# Altium footprint library SOIC.PcbLib: 1 footprints
Each footprint in its own frame and in the unit in brackets; x right, y up, seen from the top. Pads: shape width x height; smd on the part's side, far side on the other; paste and mask are expansions set on the pad; w line width, h text height; cw(c..) or ccw(c..) is an arc to the next point about the centre after c.
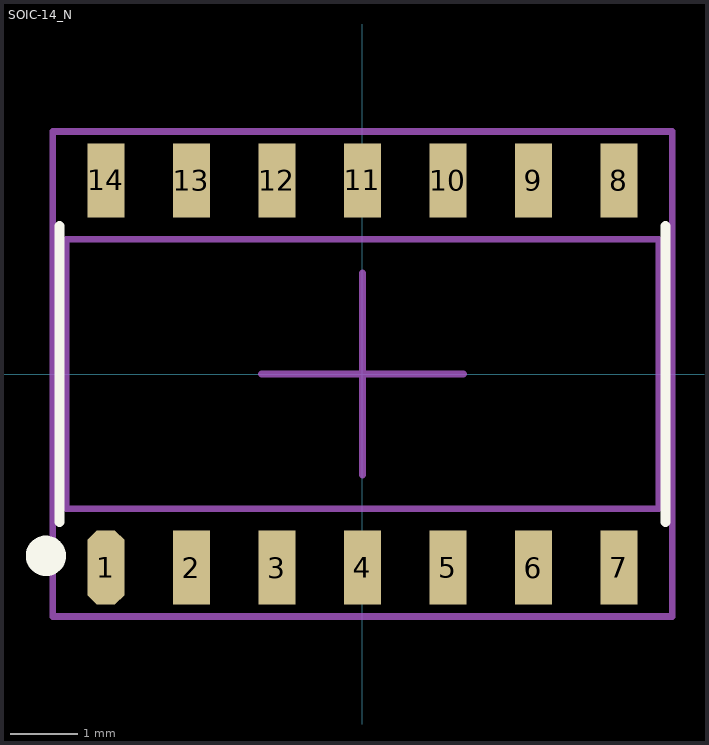
[diagram p0: the footprint, top view; thin cyan lines are the x and y axes]

## SOIC-14_N [mm] "SOIC, 14-Leads, Body 4x8.75mm, Pitch 1.27mm, Lead Span 6.2mm, IPC Medium Density"
height 1.75
pads (14):
  oct 0.55x1.1 smd mask+0.075: 1(-3.81,-2.875)
  rect 0.55x1.1 smd mask+0.075: 2(-2.54,-2.875) 3(-1.27,-2.875) 4(0,-2.875) 5(1.27,-2.875) 6(2.54,-2.875) 7(3.81,-2.875) 8(3.81,2.875) 9(2.54,2.875) 10(1.27,2.875) 11(0,2.875) 12(-1.27,2.875) 13(-2.54,2.875) 14(-3.81,2.875)
Top Overlay:
  circle w0.3: c-4.7,-2.7 r0.15
  lines w0.15: -4.5,-2.2 -4.5,2.2 ; 4.5,-2.2 4.5,2.2
Mechanical 13:
  lines w0.1: -4.4,-2 -4.4,2 4.4,2 4.4,-2 -4.4,-2
Mechanical 15:
  lines w0.1: -1.5,0 1.5,0 ; 0,-1.5 0,1.5 ; -4.6,-3.6 4.6,-3.6 4.6,3.6 -4.6,3.6 -4.6,-3.6
3D body: height 1.75, standoff 0.25, extent -4.4,-2 4.4,2